# Altium schematic symbol library DIODE,Rectifier,600V,1A,Thru.Schlib: 1 symbol
Pins are listed as number, name and electrical type; pins without a type are passive.

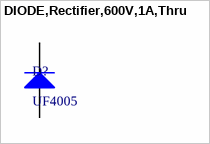
[diagram p0: symbol DIODE,Rectifier,600V,1A,Thru]

## DIODE,Rectifier,600V,1A,Thru
designator D?, comment UF4005
Diode Standard 600V 1A Through Hole DO-204AL (DO-41)
pins: 1 K, 2 A